# EAGLE library part XR-TM044H (library exar)
T1 REPEATER
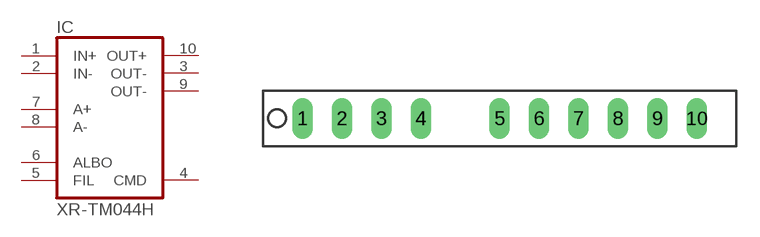
[diagram p11: symbol with the pads of SILP-10; footprint SILP-10]

Designator prefix IC

## XR-TM044H (OC_FARNELL: unknown; OC_NEWARK: unknown)  [SILP-10]
1  IN+  in
2  IN-  in
3  OUT-  out
4  CMD  pwr
5  FIL  in
6  ALBO  in
7  A+  in
8  A-  in
9  OUT-  out
10  OUT+  out

## Footprint SILP-10 (pad centres in mm)
Single Inline Package
drill 0.813 long: 1 -10.16,0; 2 -7.62,0; 3 -5.08,0; 4 -2.54,0; 5 2.54,0; 6 5.08,0; 7 7.62,0; 8 10.16,0; 9 12.7,0; 10 15.24,0